# Altium schematic symbol library IC_FPGA_CPLD.SchLib: 3 symbols
Pins are listed as number, name and electrical type; pins without a type are passive.

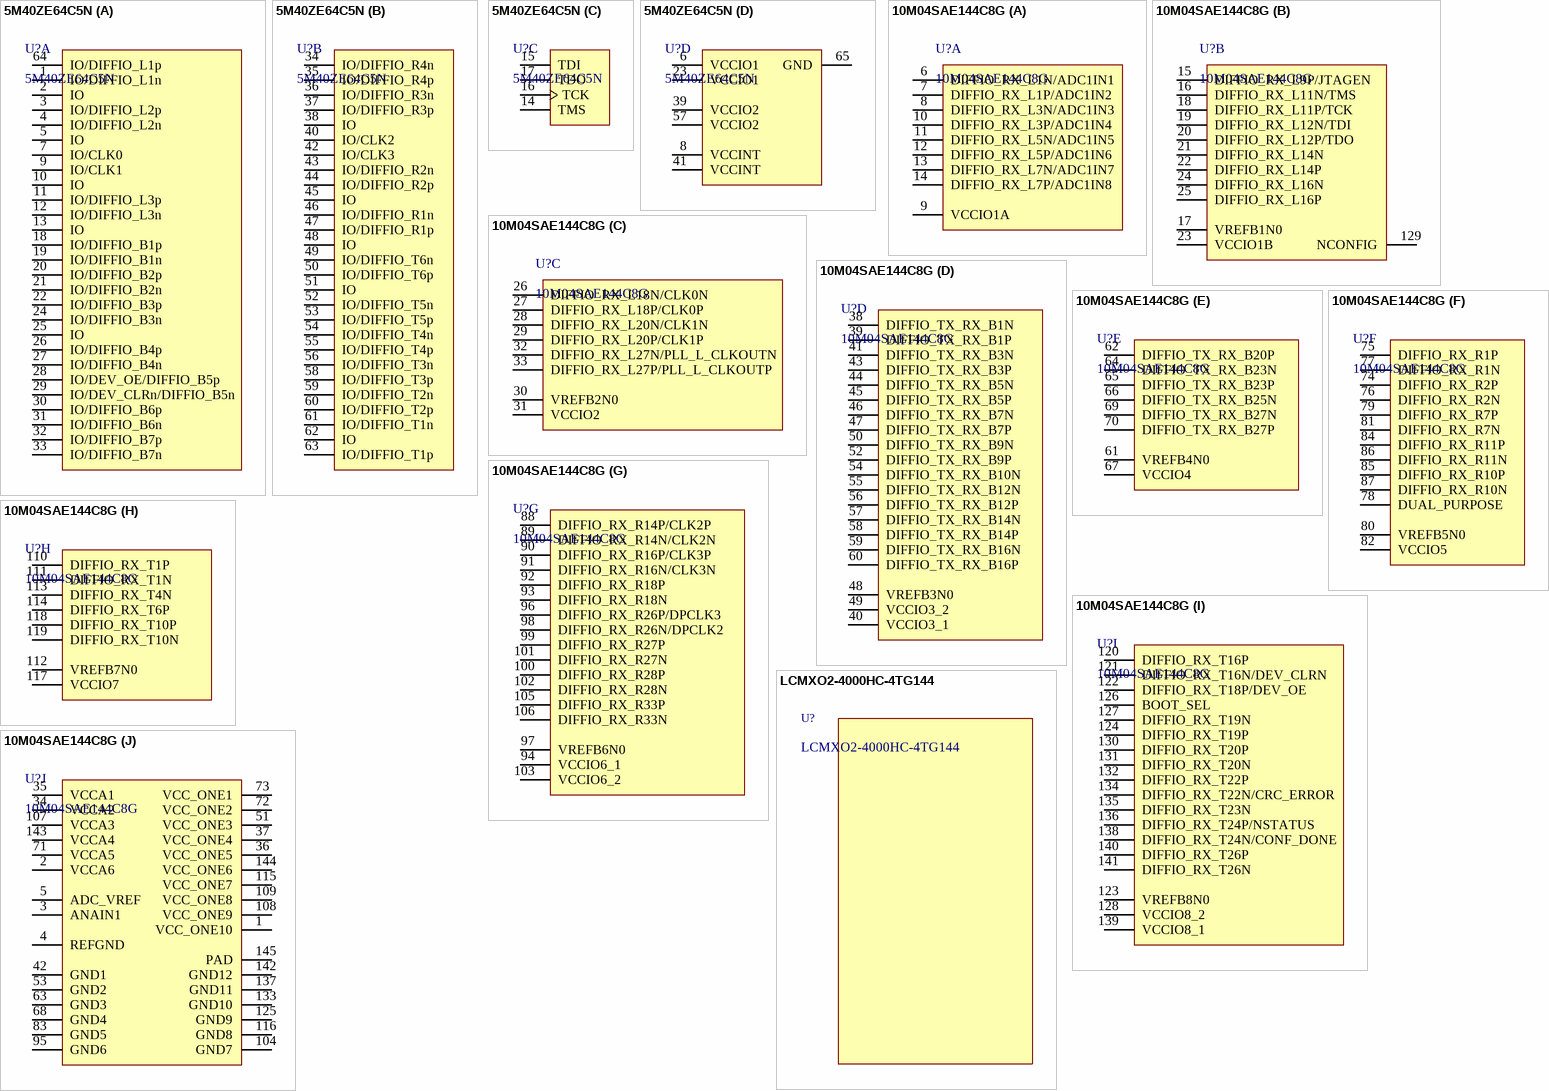
[diagram p0: symbols 5M40ZE64C5N to LCMXO2-4000HC-4TG144]

## 5M40ZE64C5N
designator U?
Altera MAX V CPLD; Name: 5M40ZE64C5N; BOMString: 5M40ZE64C5N; Supplier: https://www.digikey.com/product-detail/en/intel/5M40ZE64C5N/544-2717-ND/2499440; HelpURL: https://www.intel.com/content/dam/www/programmable/us/en/pdfs/literature/hb/max-v/mv51003.pdf
footprint EQFP-64-0.4 (64-Pin Plastic Enhanced Quad Flat (EQFP))
part A pins: 1 IO/DIFFIO_L1n, 2 IO, 3 IO/DIFFIO_L2p, 4 IO/DIFFIO_L2n, 5 IO, 7 IO/CLK0, 9 IO/CLK1, 10 IO, 11 IO/DIFFIO_L3p, 12 IO/DIFFIO_L3n, 13 IO, 18 IO/DIFFIO_B1p, 19 IO/DIFFIO_B1n, 20 IO/DIFFIO_B2p, 21 IO/DIFFIO_B2n, 22 IO/DIFFIO_B3p, 24 IO/DIFFIO_B3n, 25 IO, 26 IO/DIFFIO_B4p, 27 IO/DIFFIO_B4n, 28 IO/DEV_OE/DIFFIO_B5p, 29 IO/DEV_CLRn/DIFFIO_B5n, 30 IO/DIFFIO_B6p, 31 IO/DIFFIO_B6n, 32 IO/DIFFIO_B7p, 33 IO/DIFFIO_B7n, 64 IO/DIFFIO_L1p
part B pins: 34 IO/DIFFIO_R4n, 35 IO/DIFFIO_R4p, 36 IO/DIFFIO_R3n, 37 IO/DIFFIO_R3p, 38 IO, 40 IO/CLK2, 42 IO/CLK3, 43 IO/DIFFIO_R2n, 44 IO/DIFFIO_R2p, 45 IO, 46 IO/DIFFIO_R1n, 47 IO/DIFFIO_R1p, 48 IO, 49 IO/DIFFIO_T6n, 50 IO/DIFFIO_T6p, 51 IO, 52 IO/DIFFIO_T5n, 53 IO/DIFFIO_T5p, 54 IO/DIFFIO_T4n, 55 IO/DIFFIO_T4p, 56 IO/DIFFIO_T3n, 58 IO/DIFFIO_T3p, 59 IO/DIFFIO_T2n, 60 IO/DIFFIO_T2p, 61 IO/DIFFIO_T1n, 62 IO, 63 IO/DIFFIO_T1p
part C pins: 14 TMS, 15 TDI, 16 TCK, 17 TDO
part D pins: 6 VCCIO1, 8 VCCINT, 23 VCCIO1, 39 VCCIO2, 41 VCCINT, 57 VCCIO2, 65 GND

## 10M04SAE144C8G
designator U?
Intel® MAX® 10 FPGA; Supplier: https://www.digikey.com/product-detail/en/intel/10M04SAE144C8G/544-3212-ND/5698248; Name: 10M04SAE144C8G; BOMString: 10M04SAE144C8G; HelpURL: https://www.intel.com/content/dam/www/programmable/us/en/pdfs/literature/hb/max-10/m10_datasheet.pdf
footprint EQFP-144-0.5 (TSQFP, 144-Leads, Body 20,00x20,00mm, Pitch 0,50mm, Thermal Pad 4,50x4,50mm, IPC Medium Density)
part A pins: 6 DIFFIO_RX_L1N/ADC1IN1, 7 DIFFIO_RX_L1P/ADC1IN2, 8 DIFFIO_RX_L3N/ADC1IN3, 9 VCCIO1A, 10 DIFFIO_RX_L3P/ADC1IN4, 11 DIFFIO_RX_L5N/ADC1IN5, 12 DIFFIO_RX_L5P/ADC1IN6, 13 DIFFIO_RX_L7N/ADC1IN7, 14 DIFFIO_RX_L7P/ADC1IN8
part B pins: 15 DIFFIO_RX_L9P/JTAGEN, 16 DIFFIO_RX_L11N/TMS, 17 VREFB1N0, 18 DIFFIO_RX_L11P/TCK, 19 DIFFIO_RX_L12N/TDI, 20 DIFFIO_RX_L12P/TDO, 21 DIFFIO_RX_L14N, 22 DIFFIO_RX_L14P, 23 VCCIO1B, 24 DIFFIO_RX_L16N, 25 DIFFIO_RX_L16P, 129 NCONFIG
part C pins: 26 DIFFIO_RX_L18N/CLK0N, 27 DIFFIO_RX_L18P/CLK0P, 28 DIFFIO_RX_L20N/CLK1N, 29 DIFFIO_RX_L20P/CLK1P, 30 VREFB2N0, 31 VCCIO2, 32 DIFFIO_RX_L27N/PLL_L_CLKOUTN, 33 DIFFIO_RX_L27P/PLL_L_CLKOUTP
part D pins: 38 DIFFIO_TX_RX_B1N, 39 DIFFIO_TX_RX_B1P, 40 VCCIO3_1, 41 DIFFIO_TX_RX_B3N, 43 DIFFIO_TX_RX_B3P, 44 DIFFIO_TX_RX_B5N, 45 DIFFIO_TX_RX_B5P, 46 DIFFIO_TX_RX_B7N, 47 DIFFIO_TX_RX_B7P, 48 VREFB3N0, 49 VCCIO3_2, 50 DIFFIO_TX_RX_B9N, 52 DIFFIO_TX_RX_B9P, 54 DIFFIO_TX_RX_B10N, 55 DIFFIO_TX_RX_B12N, 56 DIFFIO_TX_RX_B12P, 57 DIFFIO_TX_RX_B14N, 58 DIFFIO_TX_RX_B14P, 59 DIFFIO_TX_RX_B16N, 60 DIFFIO_TX_RX_B16P
part E pins: 61 VREFB4N0, 62 DIFFIO_TX_RX_B20P, 64 DIFFIO_TX_RX_B23N, 65 DIFFIO_TX_RX_B23P, 66 DIFFIO_TX_RX_B25N, 67 VCCIO4, 69 DIFFIO_TX_RX_B27N, 70 DIFFIO_TX_RX_B27P
part F pins: 74 DIFFIO_RX_R2P, 75 DIFFIO_RX_R1P, 76 DIFFIO_RX_R2N, 77 DIFFIO_RX_R1N, 78 DUAL_PURPOSE, 79 DIFFIO_RX_R7P, 80 VREFB5N0, 81 DIFFIO_RX_R7N, 82 VCCIO5, 84 DIFFIO_RX_R11P, 85 DIFFIO_RX_R10P, 86 DIFFIO_RX_R11N, 87 DIFFIO_RX_R10N
part G pins: 88 DIFFIO_RX_R14P/CLK2P, 89 DIFFIO_RX_R14N/CLK2N, 90 DIFFIO_RX_R16P/CLK3P, 91 DIFFIO_RX_R16N/CLK3N, 92 DIFFIO_RX_R18P, 93 DIFFIO_RX_R18N, 94 VCCIO6_1, 96 DIFFIO_RX_R26P/DPCLK3, 97 VREFB6N0, 98 DIFFIO_RX_R26N/DPCLK2, 99 DIFFIO_RX_R27P, 100 DIFFIO_RX_R28P, 101 DIFFIO_RX_R27N, 102 DIFFIO_RX_R28N, 103 VCCIO6_2, 105 DIFFIO_RX_R33P, 106 DIFFIO_RX_R33N
part H pins: 110 DIFFIO_RX_T1P, 111 DIFFIO_RX_T1N, 112 VREFB7N0, 113 DIFFIO_RX_T4N, 114 DIFFIO_RX_T6P, 117 VCCIO7, 118 DIFFIO_RX_T10P, 119 DIFFIO_RX_T10N
part I pins: 120 DIFFIO_RX_T16P, 121 DIFFIO_RX_T16N/DEV_CLRN, 122 DIFFIO_RX_T18P/DEV_OE, 123 VREFB8N0, 124 DIFFIO_RX_T19P, 126 BOOT_SEL, 127 DIFFIO_RX_T19N, 128 VCCIO8_2, 130 DIFFIO_RX_T20P, 131 DIFFIO_RX_T20N, 132 DIFFIO_RX_T22P, 134 DIFFIO_RX_T22N/CRC_ERROR, 135 DIFFIO_RX_T23N, 136 DIFFIO_RX_T24P/NSTATUS, 138 DIFFIO_RX_T24N/CONF_DONE, 139 VCCIO8_1, 140 DIFFIO_RX_T26P, 141 DIFFIO_RX_T26N
part J pins: 1 VCC_ONE10, 2 VCCA6, 3 ANAIN1, 4 REFGND, 5 ADC_VREF, 34 VCCA2, 35 VCCA1, 36 VCC_ONE5, 37 VCC_ONE4, 42 GND1, 51 VCC_ONE3, 53 GND2, 63 GND3, 68 GND4, 71 VCCA5, 72 VCC_ONE2, 73 VCC_ONE1, 83 GND5, 95 GND6, 104 GND7, 107 VCCA3, 108 VCC_ONE9, 109 VCC_ONE8, 115 VCC_ONE7, 116 GND8, 125 GND9, 133 GND10, 137 GND11, 142 GND12, 143 VCCA4, 144 VCC_ONE6, 145 PAD

## LCMXO2-4000HC-4TG144
designator U?